# Altium schematic symbol library MC100EPT2x.SchLib: 2 symbols
Pins are listed as number, name and electrical type; pins without a type are passive.

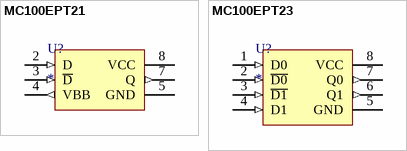
[diagram p0: symbols MC100EPT21 to MC100EPT23]

## MC100EPT21
designator U?
3.3V Differential LVPECL/LVDS/CML to LVTTL/LVCMOS Translator
footprint MC100EPT2x (TSOP, 8-Leads, Body 3.00x3.00mm, Pitch 0.65mm, IPC Medium Density)
pins: 2 D (in), 3 ~{D} (in), 4 VBB (out), 5 GND (power), 7 Q (out), 8 VCC (power)

## MC100EPT23
designator U?
3.3V Dual Differential LVPECL/LVDS/CML to LVTTL/LVCMOS Translator
footprint MC100EPT2x (TSOP, 8-Leads, Body 3.00x3.00mm, Pitch 0.65mm, IPC Medium Density)
pins: 1 D0 (in), 2 ~{D0} (in), 3 ~{D1} (in), 4 D1 (in), 5 GND (power), 6 Q1 (out), 7 Q0 (out), 8 VCC (power)